# EAGLE library part SN74CBT3257 (library toyotune)
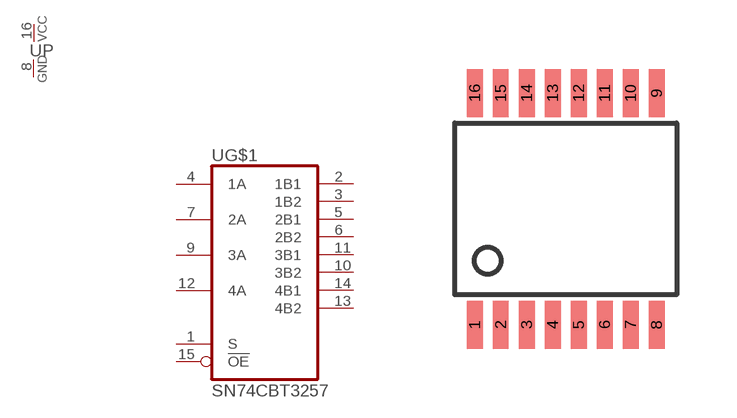
[diagram p16: symbol with the pads of PW_R-PDSO-G16; footprint PW_R-PDSO-G16]

Designator prefix -; gates G$1=SN74CBT3257 P=PWR

## SN74CBT3257PW  [PW_R-PDSO-G16]
1  G$1:S  in
2  G$1:1B1
3  G$1:1B2
4  G$1:1A
5  G$1:2B1
6  G$1:2B2
7  G$1:2A
8  P:GND  pwr
9  G$1:3A
10  G$1:3B2
11  G$1:3B1
12  G$1:4A
13  G$1:4B2
14  G$1:4B1
15  G$1:!OE  in
16  P:VCC  pwr

## Footprint PW_R-PDSO-G16 (pad centres in mm)
smd 0.4 x 1.2: 1 -2.125,-2.9; 2 -1.475,-2.9; 3 -0.825,-2.9; 4 -0.175,-2.9; 5 0.475,-2.9; 6 1.125,-2.9; 7 1.775,-2.9; 8 2.425,-2.9; 9 2.425,2.9; 10 1.775,2.9; 11 1.125,2.9; 12 0.475,2.9; 13 -0.175,2.9; 14 -0.825,2.9; 15 -1.475,2.9; 16 -2.125,2.9